# EAGLE library part POLOLU (library me210)
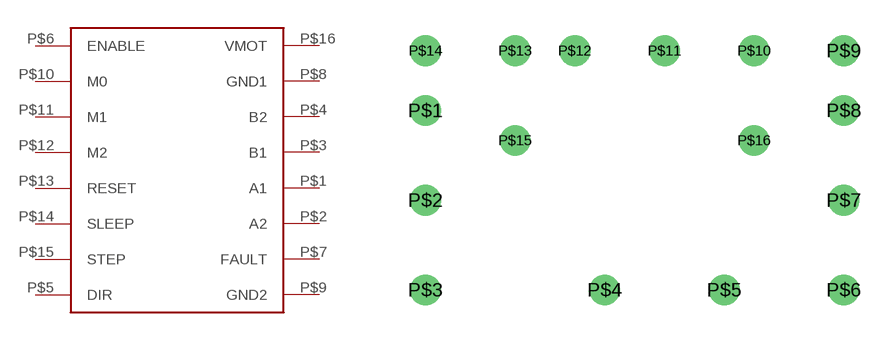
[diagram p2: symbol with the pads of POLOLU; footprint POLOLU]

Designator prefix -

## POLOLU  [POLOLU]
P$1  A1
P$2  A2
P$3  B1
P$4  B2
P$5  DIR
P$6  ENABLE
P$7  FAULT
P$8  GND1
P$9  GND2
P$10  M0
P$11  M1
P$12  M2
P$13  RESET
P$14  SLEEP
P$15  STEP
P$16  VMOT

## Footprint POLOLU (pad centres in mm)
drill 0.8: P$1 -8.89,1.27; P$2 -8.89,-2.54; P$3 -8.89,-6.35; P$4 -1.27,-6.35; P$5 3.81,-6.35; P$6 8.89,-6.35; P$7 8.89,-2.54; P$8 8.89,1.27; P$9 8.89,3.81; P$10 5.08,3.81; P$11 1.27,3.81; P$12 -2.54,3.81; P$13 -5.08,3.81; P$14 -8.89,3.81; P$15 -5.08,0; P$16 5.08,0